# Altium schematic symbol library IC_Texas_Instruments_TPS79630DCQR.SchLib: 1 symbol
Pins are listed as number, name and electrical type; pins without a type are passive.

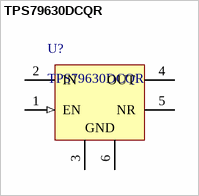
[diagram p0: symbol TPS79630DCQR]

## TPS79630DCQR
designator U?
Single Output High PSRR LDO, 1 A, Fixed 3 V Output, 2.7 to 5.5 V Input, 6-pin SOT-223 (DCQ), -40 to 125 degC, Green (RoHS & no Sb/Br); Manufacturer: Texas Instruments; Accuracy(%): 2; Iq(Typ)(mA): 0.26; Vin(Min)(V): 2.7; Vout Adj(Min)(V): 3; SubFamily: Single Channel LDO; Vin(Max)(V): 5.5; Iout(Max)(A): 1; Vdo(Typ)(mV): 250; Eco-Plan: Green (RoHS & no Sb/Br); PartNumber: TPS79630DCQR; ComponentLink1Description: Manufacturer URL; ComponentLink2Description: Datasheet; DatasheetVersion: SLVS351N; ComponentLink3URL: http://www.ti.com/litv/pdf/mpds098c; Vout Adj(Max)(V): 3; ComponentLink1URL: http://www.ti.com/; Fixed Output Options(V): 3; ComponentLink2URL: http://www.ti.com/general/docs/lit/getliterature.tsp?genericPartNumber=TPS79630&fileType=pdf; ComponentLink3Description: Package Specification; PackageVersion: 4202109/D; Mounting Technology: Surface Mount; PackageDescription: 6-Pin Plastic Small Outline, Body 3.5 x 6.5 mm, Pitch 1.27 mm; Supplier 1: Mouser; Supplier Part Number 1: 595-TPS79630DCQR; PackageReference: DCQ0006A
footprint DCQ0006A_N
footprint DCQ0006A_L
footprint DCQ0006A_M
pins: 1 EN (in) "The EN terminal is an input that enables or shuts down the device. When EN is a logic high, the device is enabled. When the device is a logic low, the device is in shutdown mode.", 2 IN (power) "Unregulated input to the device.", 3 GND (power) "Regulator ground", 4 OUT (power) "Regulator output", 5 NR "Connecting an external capacitor to this pin bypasses noise generated by the internal bandgap, which improves power-supply rejection and reduces output noise.", 6 GND (power) "Regulator ground"